# Altium schematic symbol library DMX512.SchLib: 32 symbols
Pins are listed as number, name and electrical type; pins without a type are passive.

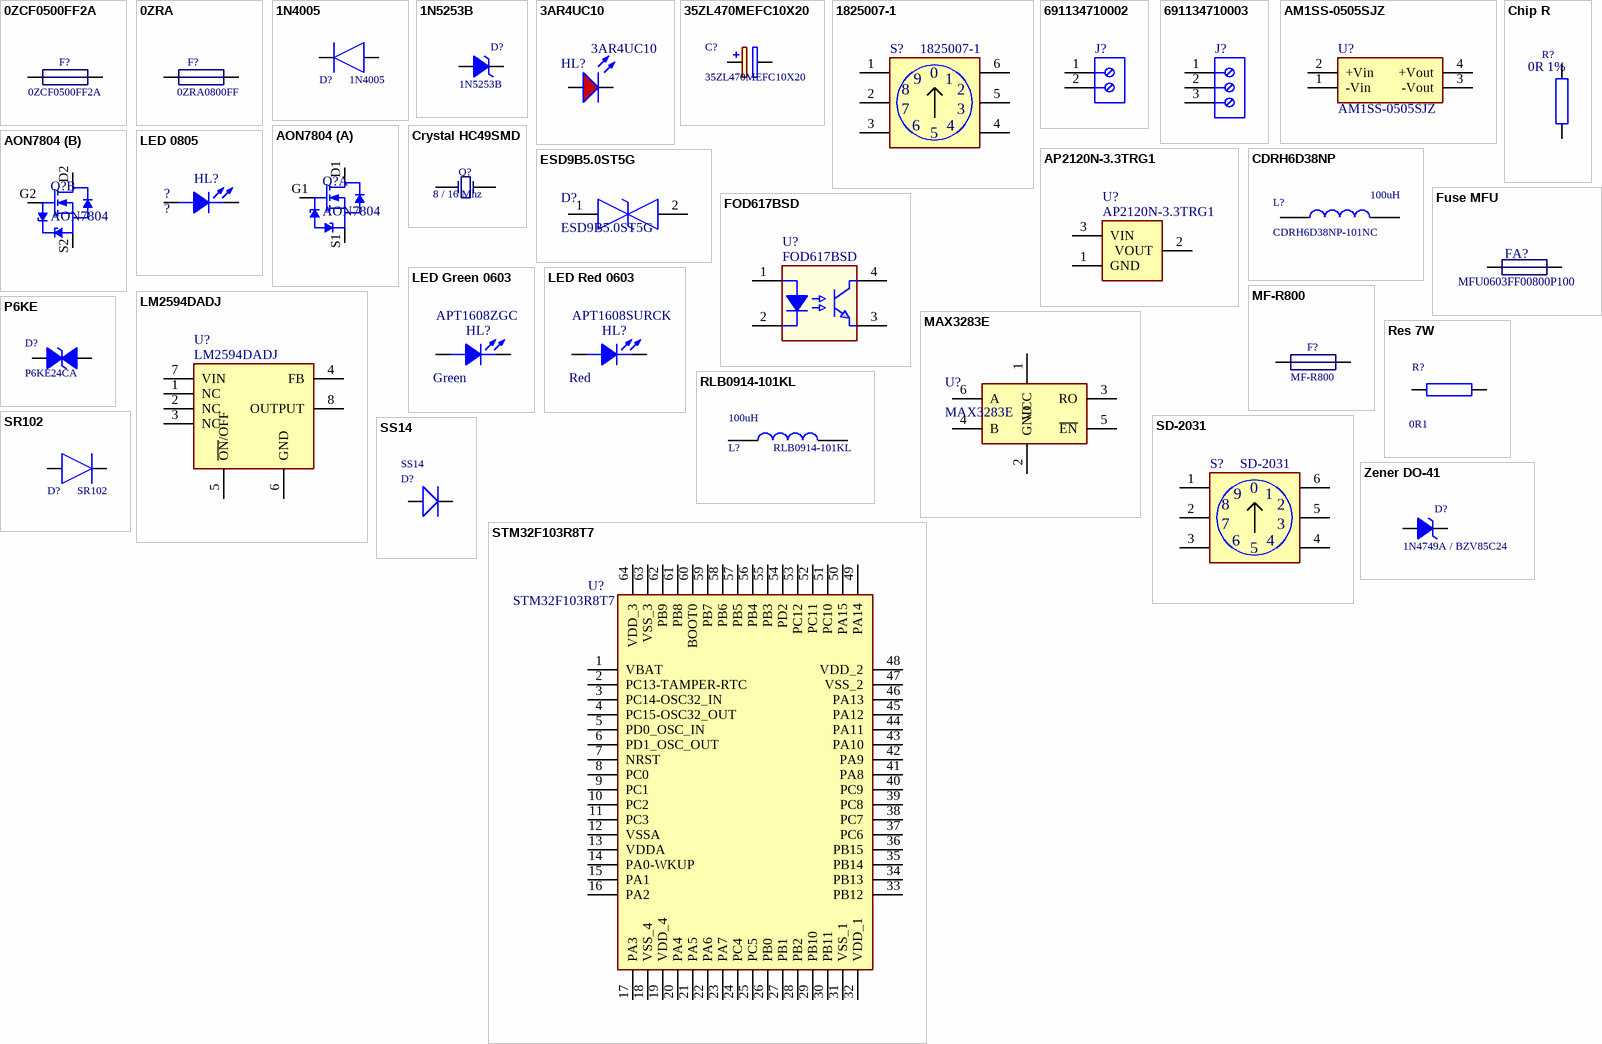
[diagram p0: symbols 0ZCF0500FF2A to Zener DO-41]

## 0ZCF0500FF2A
designator F?
Surface Mount PTC 5/10A; SMD/TH: SMD; HelpURL: https://www.belfuse.com/resources/datasheets/circuitprotection/ds-cp-0zcf-series.pdf
footprint 0ZCF0500FF2A
pins: 1, 2

## 0ZRA
designator F?, comment 0ZRA0800FF
Radial Leaded PTC 8/13.6A; SMD/TH: TH; HelpURL: https://www.belfuse.com/resources/datasheets/circuitprotection/ds-cp-0zra-series.pdf
footprint 0ZRA0800FF
pins: 1, 2

## 1N4005
designator D?
Diode 600V 1A General Purchase DO-41 Fairchild 1N4005 Rectifier Diode; SMD/TH: TH; HelpURL: https://www.onsemi.com/pub/Collateral/1N4001-D.PDF
footprint DIOAD1413W86L463D238
pins: 1 K, 2 A

## 1N5253B
designator D?
Zener DO-35; Mfr: ON Semi; SMD/TH: SMD; HelpURL: https://www.onsemi.com/pub/Collateral/1N5221B-D.PDF
footprint DO-204AH (DO-35).SLDPRT (Diode, Axial; Body 3.8 x 1.9 mm (LxDia. max), Lead Dia. 0.53 mm (max))
pins: 1, 2

## 3AR4UC10
designator HL?
LED 3mm Red; SMD/TH: TH; HelpURL: http://www.triatron.ru/upload/catalog_photo/elements/pdf/006531.pdf
footprint LED-2pin 2.54mm (LED 2.54, 2 Leads)
pins: 1, 2

## 35ZL470MEFC10X20
designator C?
Radial Lead Aluminum Electrolytic Capacitors; SMD/TH: TH; HelpURL: http://www.rubycon.co.jp/en/catalog/e_pdfs/aluminum/e_zl.pdf
footprint CAPPRD500W60D1025H1750
pins: 1 +, 2 -

## 1825007-1
designator S?
Alcoswitch DIP, Rotary Switches, 10 Positions, Flush Actuator Style, Rotary Switch Style, Rotary DIP Switch Type, 10 Switches, Thermoplastic, Sealed; SMD/TH: TH; HelpURL: https://www.te.com/commerce/DocumentDelivery/DDEController?Action=showdoc&DocId=Customer+Drawing%7F1825007%7FA5%7Fpdf%7FEnglish%7FENG_CD_1825007_A5.pdf%7F1825007-1
footprint 1825007-1
pins: 1, 2, 3, 4, 5, 6
text: 0; 9; 8; 7

## 691134710002
designator J?
WR-TBL Serie 1347 Horizontal Cable Entry, Pressure Clamp, pitch 5mm, 2p; Part Number: 691134710002; Compliance: Lead free / RoHS; Modularity: Yes; PCB/Cable/Panel: PCB; Pin Number: 2; Rated Current [UL]: 16A; Working Voltage [UL]: 300VAC; ComponentLink1Description: Manufacturer; ComponentLink1URL: http://www.we-online.de; ComponentLink2URL: https://katalog.we-online.de/em/datasheet/691134710002.pdf; ComponentLink2Description: Datasheet; Mounting Technology: THT; Packaging: Box; Operating Temperature: -30 to +120degC; Pitch: 5mm; Published Date: October 2019; Type: Horizontal; Publisher: Wurth Elektronik; Application: Pressure Clamp
footprint 691134710002
pins: 1, 2

## 691134710003
designator J?  (value not drawn)
WR-TBL Serie 1347 Horizontal Cable Entry, Pressure Clamp, pitch 5mm, 3p; Compliance: Lead free / RoHS; SMD/TH: TH; Modularity: Yes; PCB/Cable/Panel: PCB; Pin Number: 3; Rated Current [UL]: 16A; Working Voltage [UL]: 300VAC; ComponentLink1Description: Manufacturer; ComponentLink1URL: http://www.we-online.de; ComponentLink2URL: https://katalog.we-online.de/em/datasheet/691134710003.pdf; ComponentLink2Description: Datasheet; Part Number: 691134710003; Packaging: Box; Operating Temperature: -30 to +120degC; Pitch: 5mm; Published Date: October 2019; Type: Horizontal; Publisher: Wurth Elektronik; Application: Pressure Clamp
footprint 691134710003
pins: 1, 2, 3

## AM1SS-0505SJZ
designator U?
Isolated DC-DC Converter 1 Watt; Manufacturer_Name: aimtec; Manufacturer_Part_Number: AM1SS-1205S-NZ; SMD/TH: SMD; Datasheet Link: http://www.aimtec.com/site/Aimtec/files/Datasheet/HighResolution/am1ss-nz.pdf; Height: 10.16mm; HelpURL: http://www.aimtec.com/site/Aimtec/files/Datasheet/HighResolution/am1ss-nz.pdf
footprint AM1S (Footprint not found)
pins: 1 -Vin, 2 +Vin, 3 -Vout, 4 +Vout

## AON7804
designator Q?
30V Dual N-Channel MOSFET; SMD/TH: SMD; HelpURL: http://aosmd.com/res/data_sheets/AON7804.pdf; ComponentLink1Description: Drawing; ComponentLink1URL: http://aosmd.com/res/packaging_information/DFN3x3_8L_EP2_P.pdf
footprint AON7804
part A pins: D1, G1, S1
part B pins: D2, G2 G1, S2 S1

## AP2120N-3.3TRG1
designator U?
High Speed, Extremely Low Noise LDO Regulator; Manufacturer_Name: Diodes Inc.; Allied_Number: 70550990; SMD/TH: SMD; Datasheet Link: https://componentsearchengine.com/Datasheets/1/AP2120N-3.3TRG1.pdf; Height: 1.2mm; Manufacturer_Part_Number: AP2120N-3.3TRG1; Mouser Part Number: 621-AP2120N-3.3TRG1; Mouser Price/Stock: https://www.mouser.com/Search/Refine.aspx?Keyword=621-AP2120N-3.3TRG1; RS Part Number: 8287334P; RS Price/Stock: http://uk.rs-online.com/web/p/products/8287334P; Allied Price/Stock: https://www.alliedelec.com/diodesinc-ap2120n-3-3trg1/70550990/; HelpURL: https://www.diodes.com/assets/Datasheets/AP2120.pdf
footprint SOT-23-3 (3) (3-Lead Plastic SOT-23, 3rd Pin alone)
pins: 1 GND, 2 VOUT, 3 VIN

## CDRH6D38NP
designator L?, comment CDRH6D38NP-101NC  value 100uH
SMD Power Inductor 100uH 0.65A 265mOhms; Mfr: Sumida; HelpURL: http://products.sumida.com/products/pdf/CDRH6D38.pdf; SMD/TH: SMD
footprint INDPM6767X400N
pins: 1, 2

## Chip R
designator R?, comment 0R 1%
Chip Resistor; HelpURL: http://www.vishay.com/docs/49252/_dbr_smd_resistor_product_overview_vmn_sg2189_1705.pdf; ComponentLink1Description: Local Datasheet; ComponentLink1URL: V:\Libraries\Passives\Resistors\_dbr_smd_resistor_product_overview_vmn_sg2189_1705.pdf; Value2: 1%; Footprint: =copy(currentfootprint,2,4); Value: 0R
footprint R0402_r (0402)
footprint R0603_r (0603)
footprint r0201_r (0201)
footprint r0201_s (0201)
footprint R0402_rf (0402)
footprint r0402_s (0402)
footprint R0603_s (0603)
footprint R0805_r (0805)
footprint R0805_s (0805)
footprint R1206_r (1206)
footprint R1206_s (1206)
footprint R2512_s (2512)
footprint R1210_R (SMD1210 Standard Thick Film Chip Resistors)
footprint Chip R 0402 - 1206
pins: 1, 2

## Crystal HC49SMD
designator Q?, comment value 8 / 16 Mhz  (hidden comment: Crystal HC/49US SMD)
HC/49US (AT49) LOW PROFILE SURFACE / MOUNT MICROPROCESSOR CRYSTAL; HelpURL: https://abracon.com/Resonators/ABLS2.pdf
footprint HC49SMD (HC49SMD Crystal Formed Leads 11.4x4.7mm)
pins: 1, 2

## ESD9B5.0ST5G
designator D?
TVS Diode (Bi-directional); Manufacturer_Name: ON Semiconductor; Manufacturer_Part_Number: SZESD9B5.0ST5G; SMD/TH: SMD; HelpURL: http://www.onsemi.com/pub/Collateral/ESD9B-D.PDF; Height: 0.4mm
footprint SOD-923 (CASE 514AB) (SOD?923 (CASE 514AB))
pins: 1 K, 2 A

## FOD617BSD
designator U?
4-Pin High Operating Temperature / Phototransistor Optocouplers; Manufacturer_Name: ON Semiconductor; Manufacturer_Part_Number: FOD814; SMD/TH: TH; Datasheet Link: http://www.onsemi.com/pub/Collateral/FOD814-D.PDF; Height: 4.4mm; Mouser Part Number: 512-FOD814; Mouser Price/Stock: https://www.mouser.com/Search/Refine.aspx?Keyword=512-FOD814; RS Part Number: 7599311P; RS Price/Stock: http://uk.rs-online.com/web/p/products/7599311P; HelpURL: https://4donline.ihs.com/images/VipMasterIC/IC/FAIR/FAIRS24026/FAIRS24026-1.pdf?hkey=EC6BD57738AE6E33B588C5F9AD3CEFA7
footprint FOD617BSD
pins: 1 A, 2 C, 3 E, 4 C

## Fuse MFU
designator FA?, comment MFU0603FF00800P100
Thin Film Chip Fuse; SMD/TH: SMD; HelpURL: http://www.vishay.com/docs/28747/mfuserie.pdf
footprint FUSC1608X55N
pins: 1, 2

## LED 0805
designator HL?, comment ? ?  (value not drawn)
LED 0805; SMD/TH: SMD; PN: ?; Color: ?
footprint LED SMD 0805 (2x1.2 mm SMD LED)
pins: 1 A, 2 K

## LED Green 0603
designator HL?, comment Color: Green  PN: APT1608ZGC  (hidden comment: APT1608ZGC Green)
1.6x0.8mm SMD Green LED; Mfr: Kingbright; HelpURL: C:\_Work\CAD Stuff\Datasheets\LEDs\APT1608ZGC.pdf
footprint LED Green SMD 0603 (Footprint not found)
pins: 1 A, 2 K

## LED Red 0603
designator HL?, comment Color: Red  PN: APT1608SURCK  (hidden comment: APT1608SURCK Red)
1.6x0.8mm SMD Red LED; Mfr: Kingbright; HelpURL: C:\_Work\CAD Stuff\Datasheets\LEDs\APT1608SURCK.pdf
footprint LED Red SMD 0603 (1.6x0.8x0.75mm SMD Red LED)
pins: 1 A, 2 K

## LM2594DADJ
designator U?
0.5 A, Step-Down Switching Regulator; Mfr: ON Semiconductor; SMD/TH: SMD; HelpURL: http://www.onsemi.com/pub/Collateral/LM2594-D.PDF
footprint SOIC-8
pins: 1 NC, 2 NC, 3 NC, 4 FB, 5 ~{ON}/OFF, 6 GND (power), 7 VIN, 8 OUTPUT

## MAX3283E
designator U?
15kV ESD-Protected 52Mbps, 3V to 5.5V, / SOT23 RS-485/RS-422 True Fail-Safe Receiver; Manufacturer_Name: Maxim Integrated; Manufacturer_Part_Number: MAX3283EAUT+T; SMD/TH: SMD; Datasheet Link: https://datasheets.maximintegrated.com/en/ds/MAX3280E-MAX3284E.pdf; Height: 1.45mm; Mouser Part Number: 700-MAX3283EAUTT; Mouser Price/Stock: https://www.mouser.com/Search/Refine.aspx?Keyword=700-MAX3283EAUTT; RS Part Number: 9237298; RS Price/Stock: https://uk.rs-online.com/web/p/products/9237298; HelpURL: https://datasheets.maximintegrated.com/en/ds/MAX3280E-MAX3284E.pdf
footprint SOT23-6 (SOT95P280X145-6N)
pins: 1 VCC (power), 2 GND (power), 3 RO, 4 B, 5 ~{EN}, 6 A

## MF-R800
designator F?
PTC Resettable Fuse 8/16A; SMD/TH: TH; HelpURL: https://www.bourns.com/docs/Product-Datasheets/mfr.pdf
footprint MF-R800 (Footprint not found)
pins: 1, 2

## P6KE
designator D?, comment P6KE24CA
TVS Axial 600W Unipolar 24V; SMD/TH: TH; HelpURL: https://m.littelfuse.com/~/media/electronics/datasheets/tvs_diodes/littelfuse_tvs_diode_p6ke_datasheet.pdf.pdf
footprint DIOAD1910W90L670D310 (DO-15) (Footprint not found)
pins: 1, 2

## Res 7W
designator R?, comment value 0R1  (hidden comment: KNP700JB-91-0R1)
Resistor 7W Axial; Mfr: Yageo; SMD/TH: TH; HelpURL: https://www.yageo.com/upload/media/product/products/datasheet/lr/Yageo_LR_KNP_1.pdf
footprint RES7W (Axial Resistor 7W)
pins: 1, 2

## RLB0914-101KL
designator L?  value 100uH
Radial Fixed Through Hole Inductor 100uH Bourns 100 uH +/-10%; SMD/TH: TH; HelpURL: https://www.bourns.com/pdfs/rlb.pdf
footprint RLB0914
pins: 1, 2

## SD-2031
designator S?
ROTARY CODED SWITCHES; SMD/TH: TH; HelpURL: https://www.nidec-copal-electronics.com/e/catalog/switch/sd-1000&sd-2000.pdf
footprint SD-2031
pins: 1, 2, 3, 4, 5, 6
text: 0; 9; 8; 7

## SR102
designator D?
Schottky Barrier Rectifier; SMD/TH: TH; HelpURL: https://ru.mouser.com/Semiconductors/Discrete-Semiconductors/Diodes-Rectifiers/Schottky-Diodes-Rectifiers/Datasheets/_/N-awhng?keyword=SR103
footprint DO-204AL (DO-41)
pins: 1 K, 2 A

## SS14
designator D?
Surface Mount Schottky Barrier Rectifier 1A; SMD/TH: SMD; HelpURL: http://www.vishay.com/docs/88746/ss12.pdf
footprint DO-214AC (SMA)
pins: 1, 2

## STM32F103R8T7
designator U?
Medium-density performance line ARM®-based 32-bit MCU with 64 or 128 KB Flash, USB, CAN, 7 timers, 2 ADCs, 9 com. interfaces; Mfr: STMicroelectronics; SMD/TH: SMD; Height: 1.6mm; HelpURL: https://www.st.com/resource/en/datasheet/stm32f103r8.pdf; ComponentLink1Description: Reference Manual; ComponentLink1URL: https://www.st.com/resource/en/reference_manual/cd00171190-stm32f101xx-stm32f102xx-stm32f103xx-stm32f105xx-and-stm32f107xx-advanced-arm-based-32-bit-mcus-stmicroelectronics.pdf
footprint LQFP64 (QFP50P1200X1200X160-64N)
pins: 1 VBAT, 2 PC13-TAMPER-RTC, 3 PC14-OSC32_IN, 4 PC15-OSC32_OUT, 5 PD0_OSC_IN, 6 PD1_OSC_OUT, 7 NRST, 8 PC0, 9 PC1, 10 PC2, 11 PC3, 12 VSSA, 13 VDDA, 14 PA0-WKUP, 15 PA1, 16 PA2, 17 PA3, 18 VSS_4 (power), 19 VDD_4 (power), 20 PA4, 21 PA5, 22 PA6, 23 PA7, 24 PC4, 25 PC5, 26 PB0, 27 PB1, 28 PB2, 29 PB10, 30 PB11, 31 VSS_1 (power), 32 VDD_1 (power), 33 PB12, 34 PB13, 35 PB14, 36 PB15, 37 PC6, 38 PC7, 39 PC8, 40 PC9, 41 PA8, 42 PA9, 43 PA10, 44 PA11, 45 PA12, 46 PA13, 47 VSS_2 (power), 48 VDD_2 (power), 49 PA14, 50 PA15, 51 PC10, 52 PC11, 53 PC12, 54 PD2, 55 PB3, 56 PB4, 57 PB5, 58 PB6, 59 PB7, 60 BOOT0, 61 PB8, 62 PB9, 63 VSS_3 (power), 64 VDD_3 (power)

## Zener DO-41
designator D?, comment 1N4749A / BZV85C24
Zener DO-41; SMD/TH: TH; HelpURL: https://assets.nexperia.com/documents/data-sheet/1N4728A_SER.pdf
footprint DO-204AL (DO-41)
pins: 1, 2